# EAGLE library part MAX31855 (library SD-SolderSync-Library)
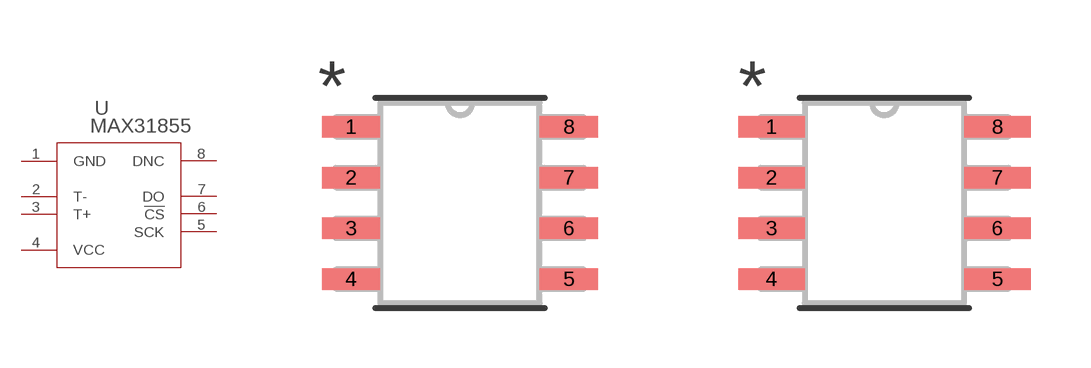
[diagram p2: symbol with the pads of _MXM; footprints _MXM, _MXM-M]

Designator prefix U

## MAX31855_MXM (COPYRIGHT: Copyright (C) 2024 Ultra Librarian. All rights reserved.; MANUFACTURER_PART_NUMBER: MAX31855KASA+; MFR_NAME: Analog Devices Inc)  [_MXM]
1  GND  pwr
2  T-  in
3  T+  in
4  VCC  pwr
5  SCK  in
6  !CS  pas
7  DO  out
8  DNC  nc

## MAX31855_MXM-M (COPYRIGHT: Copyright (C) 2024 Ultra Librarian. All rights reserved.; MANUFACTURER_PART_NUMBER: MAX31855KASA+; MFR_NAME: Analog Devices Inc)  [_MXM-M]
Pads as for _MXM

## MAX31855_MXM-L (COPYRIGHT: Copyright (C) 2024 Ultra Librarian. All rights reserved.; MANUFACTURER_PART_NUMBER: MAX31855KASA+; MFR_NAME: Analog Devices Inc)  [_MXM-L]
Pads as for _MXM

## Footprint _MXM (pad centres in mm)
smd 1.46 x 0.533: 1 -2.724,1.905; 2 -2.724,0.635; 3 -2.724,-0.635; 4 -2.724,-1.905; 5 2.724,-1.905; 6 2.724,-0.635; 7 2.724,0.635; 8 2.724,1.905

## Footprint _MXM-M (pad centres in mm)
smd 1.664 x 0.533: 1 -2.826,1.905; 2 -2.826,0.635; 3 -2.826,-0.635; 4 -2.826,-1.905; 5 2.826,-1.905; 6 2.826,-0.635; 7 2.826,0.635; 8 2.826,1.905

## Footprint _MXM-L (pad centres in mm)
smd 1.257 x 0.483: 1 -2.623,1.905; 2 -2.623,0.635; 3 -2.623,-0.635; 4 -2.623,-1.905; 5 2.623,-1.905; 6 2.623,-0.635; 7 2.623,0.635; 8 2.623,1.905